# Altium footprint library smd_cap_tantalum.PcbLib: 7 footprints
Each footprint in its own frame and in the unit in brackets; x right, y up, seen from the top. Pads: shape width x height; smd on the part's side, far side on the other; paste and mask are expansions set on the pad; w line width, h text height; cw(c..) or ccw(c..) is an arc to the next point about the centre after c.
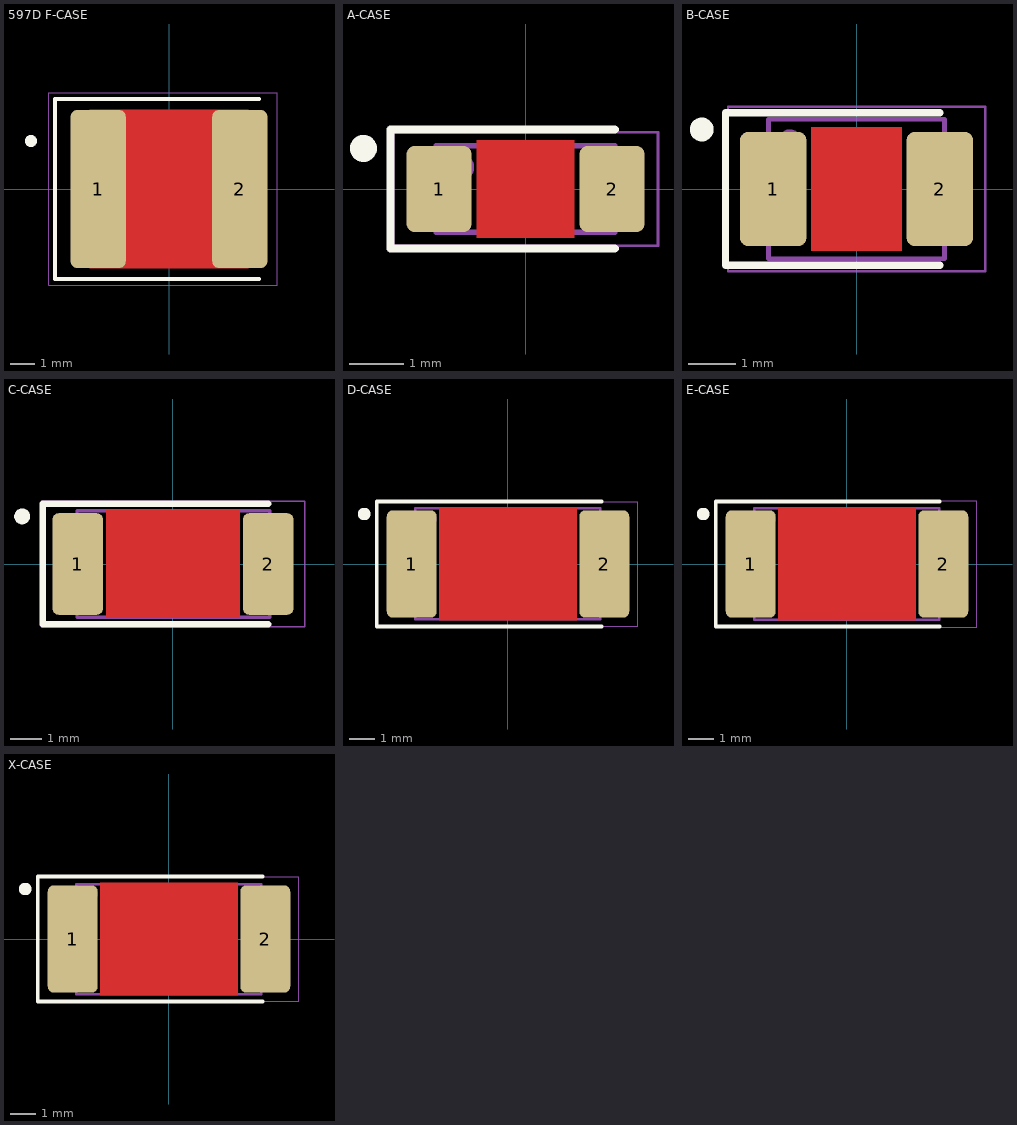
[diagram p0: the footprints below, top view; thin cyan lines are the x and y axes]

## 597D F-CASE [mm]
height 4
pads (2):
  rrect25% 2.3x6.6 smd: 1(-2.95,0) 2(2.95,0)
Top Layer:
  pour cut-out: -3.302,3.302 -3.302,-3.302 3.302,-3.302 3.302,3.302
Top Overlay:
  circle w0.3: c-5.75,2 r0.1
  lines w0.15: 3.75,-3.75 -4.75,-3.75 -4.75,3.75 3.75,3.75
Top Assembly:
  circle w0.3: c-2.5,2.5 r0.1
  lines w0.05: -3,-3 3,-3 3,3 -3,3 -3,-3
  text ".Designator" at -4.998,-0.333 h1
Top Courtyard (Mech15):
  lines w0.05: -5,-4 4.5,-4 4.5,4 -5,4 -5,-4
3D body "User Library-597D-F.step": height 4.7, standoff 0, extent -4.4,-3 3,3

## A-CASE [mm]
pads (2):
  rrect25% 1.2x1.6 smd: 1(-1.6,0) 2(1.6,0)
Top Layer:
  pour cut-out: -0.9,-0.9 0.9,-0.9 0.9,0.9 -0.9,0.9
Top Overlay:
  circle w0.3: c-3,0.75 r0.1
  lines w0.15: 1.65,-1.1 -2.5,-1.1 -2.5,1.1 1.65,1.1
Top Assembly:
  circle w0.3: c-1.2,0.4 r0.1
  lines w0.1: -1.651,-0.8 -1.651,0.8 1.651,0.8 1.651,-0.8 -1.651,-0.8
  text ".Designator" at -4.998,-0.333 h1
Top Courtyard (Mech15):
  lines w0.05: -2.45,-1.05 -2.45,1.05 2.45,1.05 2.45,-1.05 -2.45,-1.05
3D body "User Library-AVX_ACASE.STEP": height 1.71, standoff 0, extent -1.7,-0.84 1.7,0.84

## B-CASE [mm]
pads (2):
  rrect25% 1.4x2.4 smd: 1(-1.75,0) 2(1.75,0)
Top Layer:
  pour cut-out: -0.95,-1.3 0.95,-1.3 0.95,1.3 -0.95,1.3
Top Overlay:
  circle w0.3: c-3.25,1.25 r0.1
  lines w0.15: 1.75,-1.6 -2.75,-1.6 -2.75,1.6 1.75,1.6
Top Assembly:
  circle w0.3: c-1.4,1 r0.1
  lines w0.1: -1.85,-1.465 -1.85,1.465 1.85,1.465 1.85,-1.465 -1.85,-1.465
  text ".Designator" at -4.998,-0.333 h1
Top Courtyard (Mech15):
  lines w0.05: -2.7,-1.725 -2.7,1.725 2.7,1.725 2.7,-1.725 -2.7,-1.725
3D body "User Library-AVX_BCASE.STEP": height 2.03, standoff 0, extent -1.85,-1.465 1.85,1.465

## C-CASE [mm]
pads (2):
  rrect25% 1.6x3.2 smd: 1(-3,0) 2(3,0)
Top Layer:
  pour cut-out: -2.1,1.7 -2.1,-1.7 2.1,-1.7 2.1,1.7
Top Overlay:
  circle w0.3: c-4.75,1.5 r0.1
  lines w0.2: 3,-1.9 -4.1,-1.9 -4.1,1.9 3,1.9
Top Assembly:
  circle w0.3: c-2.5,1.1 r0.1
  lines w0.1: -3.025,-1.675 3.05,-1.675 3.05,1.675 -3.025,1.675 -3.025,-1.675
  text ".Designator" at -4.998,-0.333 h1
Top Courtyard (Mech15):
  lines w0.05: -4.15,-1.975 -4.15,1.975 4.15,1.975 4.15,-1.975 -4.15,-1.975
3D body "User Library-AVX_C_CASE.STEP": height 2.7, standoff 0, extent -3.05,-1.675 3.05,1.675

## D-CASE [mm]
pads (2):
  rrect25% 2x4.3 smd: 1(-3.85,0) 2(3.85,0)
Top Layer:
  pour cut-out: -2.75,2.25 -2.75,-2.25 2.75,-2.25 2.75,2.25
Top Overlay:
  circle w0.3: c-5.75,2 r0.1
  lines w0.15: 3.75,-2.5 -5.25,-2.5 -5.25,2.5 3.75,2.5
Top Assembly:
  circle w0.3: c-3.1,1.8 r0.1
  lines w0.1: -3.7,-2.2 -3.7,2.225 3.7,2.225 3.7,-2.2 -3.7,-2.2
  text ".Designator" at -4.998,-0.333 h1
Top Courtyard (Mech15):
  lines w0.05: -5.2,-2.5 -5.2,2.5 5.2,2.5 5.2,-2.5 -5.2,-2.5
3D body "User Library-AVX_D_CASE.STEP": height 3.01, standoff 0, extent -3.7,-2.225 3.7,2.225

## E-CASE [mm] "Solid Tantalum Chip Capacitor, EIA Code 7343H (CASE-E)"
height 4
pads (2):
  rrect25% 2x4.3 smd: 1(-3.85,0) 2(3.85,0)
Top Layer:
  pour cut-out: -2.75,2.25 -2.75,-2.25 2.75,-2.25 2.75,2.25
Top Overlay:
  circle w0.3: c-5.75,2 r0.1
  lines w0.15: 3.7,-2.5 -5.25,-2.5 -5.25,2.5 3.7,2.5
Top Assembly:
  circle w0.3: c-3.1,1.8 r0.1
  lines w0.1: -3.7,-2.225 -3.7,2.225 3.7,2.225 3.7,-2.225 -3.7,-2.225
  text ".Designator" at -4.998,-0.333 h1
Top Courtyard (Mech15):
  lines w0.05: -5.2,-2.525 -5.2,2.525 5.2,2.525 5.2,-2.525 -5.2,-2.525
3D body "User Library-AVX_E_CASE.STEP": height 4.2, standoff 0, extent -3.7,-2.225 3.7,2.225

## X-CASE [mm]
height 4
pads (2):
  rrect25% 2x4.3 smd: 1(-3.85,0) 2(3.85,0)
Top Layer:
  pour cut-out: -2.75,2.25 -2.75,-2.25 2.75,-2.25 2.75,2.25
Top Overlay:
  circle w0.3: c-5.75,2 r0.1
  lines w0.15: 3.75,-2.5 -5.25,-2.5 -5.25,2.5 3.75,2.5
Top Assembly:
  circle w0.3: c-3.1,1.8 r0.1
  lines w0.1: -3.7,-2.2 -3.7,2.2 3.7,2.2 3.7,-2.2 -3.7,-2.2
  text ".Designator" at -4.998,-0.333 h1
Top Courtyard (Mech15):
  lines w0.05: -5.2,-2.5 -5.2,2.5 5.2,2.5 5.2,-2.5 -5.2,-2.5
3D body "User Library-AVX_D_CASE.STEP": height 3.01, standoff 0, extent -3.7,-2.225 3.7,2.225